# Altium footprint library PcbLib.PcbLib: 3 footprints
Each footprint in its own frame and in the unit in brackets; x right, y up, seen from the top. Pads: shape width x height; smd on the part's side, far side on the other; paste and mask are expansions set on the pad; w line width, h text height; cw(c..) or ccw(c..) is an arc to the next point about the centre after c.
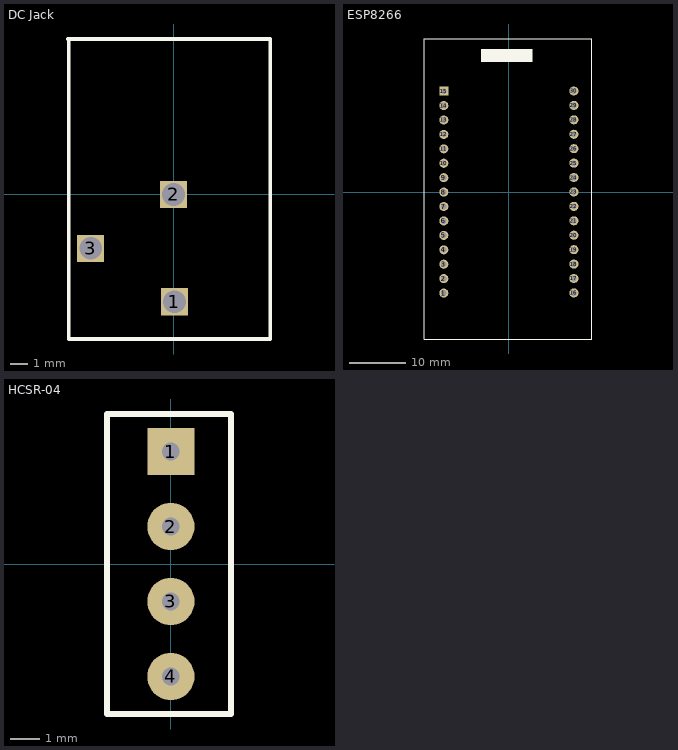
[diagram p0: the footprints below, top view; thin cyan lines are the x and y axes]

## DC Jack [mil]
pads (3):
  rect 60x60 hole 50: 1(2,-237) 2(0,0) 3(-183,-119)
Top Overlay:
  lines w7.87: -233,343 -231,343 ; -231,343 -231,-319 213,-319 213,343 197,343 -231,343
3D body "DC_JACK.stp": height 433.57, standoff -137.29, extent -190.91,-263.92 179.17,303

## ESP8266 [mm]
pads (30):
  round 1.6 hole 1: 1(-11.451,-17.793) 2(-11.451,-15.253) 3(-11.451,-12.713) 4(-11.451,-10.173) 5(-11.451,-7.633) 6(-11.451,-5.093) 7(-11.451,-2.553) 8(-11.451,-0.013) 9(-11.451,2.527) 10(-11.451,5.067) 11(-11.451,7.607) 12(-11.451,10.147) 13(-11.451,12.687) 14(-11.451,15.227) 16(11.451,-17.767) 17(11.451,-15.227) 18(11.451,-12.687) 19(11.451,-10.147) 20(11.451,-7.607) 21(11.451,-5.067) 22(11.451,-2.527) 23(11.451,0.013) 24(11.451,2.553) 25(11.451,5.093) 26(11.451,7.633) 27(11.451,10.173) 28(11.451,12.713) 29(11.451,15.253) 30(11.451,17.793)
  rect 1.6x1.6 hole 1: 15(-11.451,17.767)
Top Overlay:
  rectangle: -4.902,22.911 4.191,25.171
  lines w0.2: -14.859,-25.883 14.554,-25.883 14.554,26.949 -14.859,26.949 -14.859,-25.883
3D body "NODEMCU_DEVKIT_V1_0.STEP": height 6.73, standoff -5.46, extent -12.865,-24.268 12.915,24.726

## HCSR-04 [mm]
pads (4):
  rect 1.6x1.6 hole 0.6: 1(0,3.81)
  round 1.6 hole 0.6: 2(0,1.27) 3(0,-1.27) 4(0,-3.81)
Top Overlay:
  lines w0.2: -2.159,-5.08 -2.159,5.08 2.032,5.08 2.032,-5.08 -2.159,-5.08
3D body "HC-SR04.STEP": height 20.51, standoff -4.67, extent -0.254,-22.754 17.814,22.246